# EAGLE library part TXS0104 (library nixiemisc)
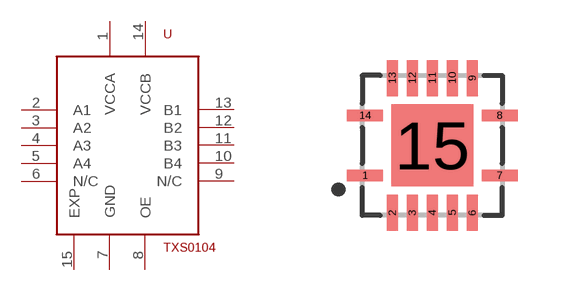
[diagram p12: symbol with the pads of VQFN-14; footprint VQFN-14]

Designator prefix U

## TXS0104  [VQFN-14]
1  VCCA  pwr
2  A1  pas
3  A2  pas
4  A3  pas
5  A4  pas
6  N/C  nc
7  GND  pwr
8  OE  pas
9  N/C  nc
10  B4  pas
11  B3  pas
12  B2  pas
13  B1  pas
14  VCCB  pwr
15  EXP  pwr

## Footprint VQFN-14 (pad centres in mm)
smd 0.9 x 0.28: 1 -1.685,-0.75; 7 1.685,-0.75; 8 1.685,0.75; 14 -1.685,0.75
smd 0.28 x 0.9: 2 -1,-1.685; 3 -0.5,-1.685; 4 0,-1.685; 5 0.5,-1.685; 6 1,-1.685; 9 1,1.685; 10 0.5,1.685; 11 0,1.685; 12 -0.5,1.685; 13 -1,1.685
smd 2.05 x 2.05: 15 0,0